# Altium footprint library Audio SMD 3.5mm.PcbLib: 1 footprints
Each footprint in its own frame and in the unit in brackets; x right, y up, seen from the top. Pads: shape width x height; smd on the part's side, far side on the other; paste and mask are expansions set on the pad; w line width, h text height; cw(c..) or ccw(c..) is an arc to the next point about the centre after c.
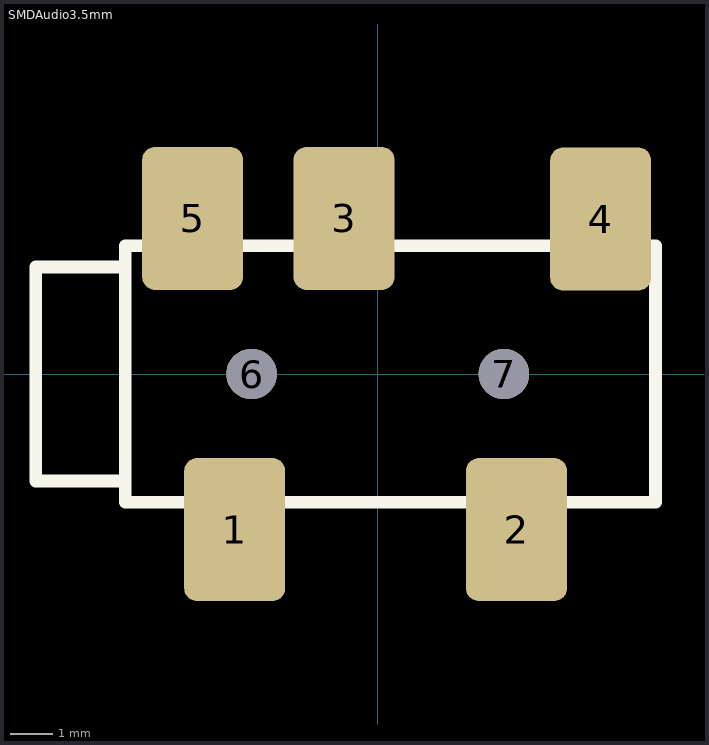
[diagram p0: the footprint, top view; thin cyan lines are the x and y axes]

## SMDAudio3.5mm [mm]
pads (7):
  rrect25% 2.4x3.4 smd: 1(-3.4,-3.7) 2(3.3,-3.7) 3(-0.8,3.7) 4(5.3,3.683) 5(-4.4,3.7)
  round 1.2 hole 1.2 unplated: 6(-3,0) 7(3,0)
Top Overlay:
  lines w0.305: -6.096,-2.54 -8.128,-2.54 -8.128,2.54 -6.096,2.54 ; -6,-3.048 -6,3.048 6.604,3.048 6.604,-3.048 -6,-3.048
3D body: height 5, standoff 0, extent -7.969,-2.49 -5.969,2.49
3D body: height 5, standoff 0, extent -5.969,-3.048 6.604,3.048